# Altium schematic symbol library PUSB3FA1Z.Schlib: 1 symbol
Pins are listed as number, name and electrical type; pins without a type are passive.

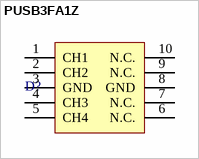
[diagram p0: symbol PUSB3FA1Z]

## PUSB3FA1Z
designator D?
4 Channel ESD Protection Diodes for SuperSpeed (Up to 10 Gbps) Interface
pins: 1 CH1, 2 CH2, 3 GND, 4 CH3, 5 CH4, 6 N.C., 7 N.C., 8 GND, 9 N.C., 10 N.C.